# Altium footprint library Package_SO.PcbLib: 393 footprints (part 19 of 25)
Each footprint in its own frame and in the unit in brackets; x right, y up, seen from the top. Pads: shape width x height; smd on the part's side, far side on the other; paste and mask are expansions set on the pad; w line width, h text height; cw(c..) or ccw(c..) is an arc to the next point about the centre after c.
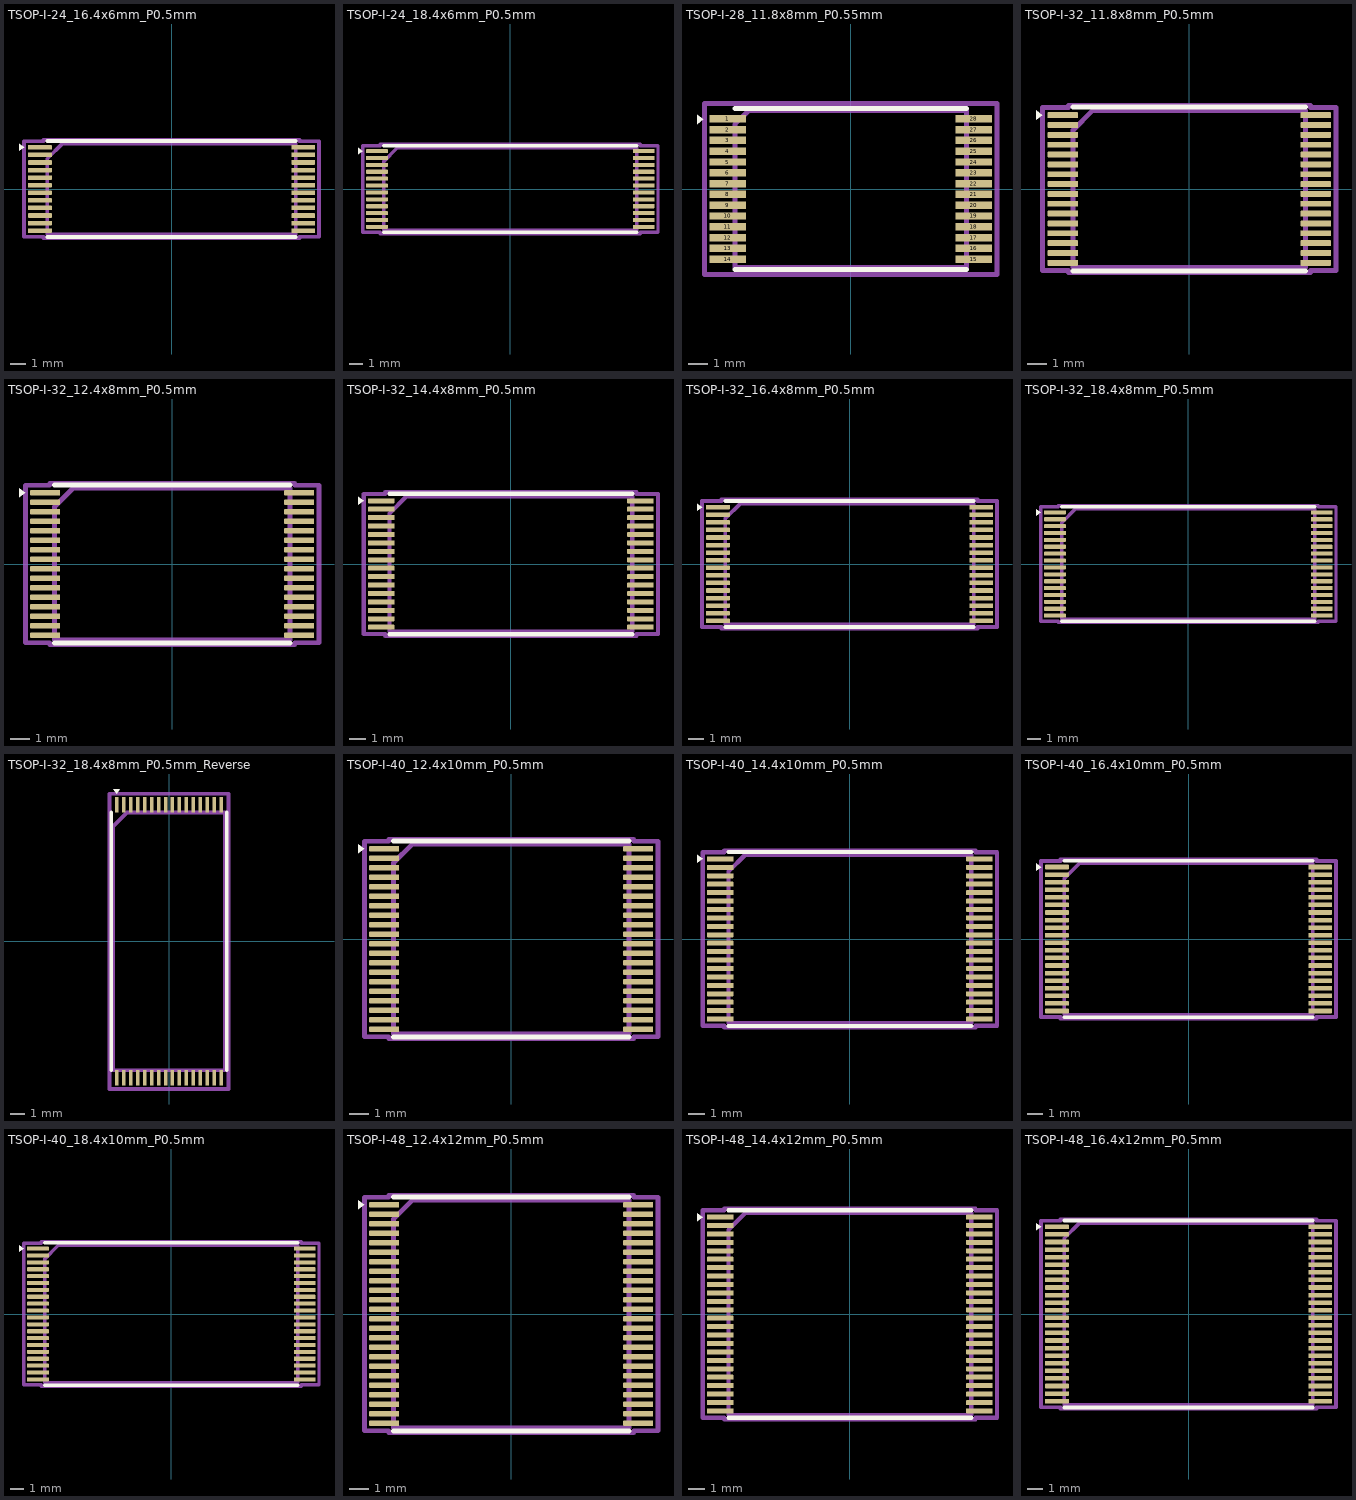
[diagram p18: the footprints below, top view; thin cyan lines are the x and y axes]

## TSOP-I-24_16.4x6mm_P0.5mm [mm]
pads (24):
  rrect25% 1.575x0.3 smd: 1(-8.688,2.75) 2(-8.688,2.25) 3(-8.688,1.75) 4(-8.688,1.25) 5(-8.688,0.75) 6(-8.688,0.25) 7(-8.688,-0.25) 8(-8.688,-0.75) 9(-8.688,-1.25) 10(-8.688,-1.75) 11(-8.688,-2.25) 12(-8.688,-2.75) 13(8.688,-2.75) 14(8.688,-2.25) 15(8.688,-1.75) 16(8.688,-1.25) 17(8.688,-0.75) 18(8.688,-0.25) 19(8.688,0.25) 20(8.688,0.75) 21(8.688,1.25) 22(8.688,1.75) 23(8.688,2.25) 24(8.688,2.75)
F.SilkS:
  region: -9.735,2.75 -10.065,2.51 -10.065,2.99
  lines w0.254: -8.2,-3.16 0,-3.16 8.2,-3.16 ; -8.2,3.16 0,3.16 8.2,3.16
Top Assembly:
  lines w0.254: -8.2,-3 8.2,-3 8.2,3 -7.2,3 -8.2,2 -8.2,-3
  text "'.Designator'" at -4.047,-0.84 h1
Top Courtyard:
  lines w0.254: -9.73,-3.15 -8.45,-3.15 -8.45,-3.25 8.45,-3.25 8.45,-3.15 9.73,-3.15 9.73,3.15 8.45,3.15 8.45,3.25 -8.45,3.25 -8.45,3.15 -9.73,3.15 -9.73,-3.15
Top Designator:
  text ".Designator" at -7.722,-0.508 h1.52

## TSOP-I-24_18.4x6mm_P0.5mm [mm]
pads (24):
  rrect25% 1.575x0.3 smd: 1(-9.687,2.75) 2(-9.687,2.25) 3(-9.687,1.75) 4(-9.687,1.25) 5(-9.687,0.75) 6(-9.687,0.25) 7(-9.687,-0.25) 8(-9.687,-0.75) 9(-9.687,-1.25) 10(-9.687,-1.75) 11(-9.687,-2.25) 12(-9.687,-2.75) 13(9.687,-2.75) 14(9.687,-2.25) 15(9.687,-1.75) 16(9.687,-1.25) 17(9.687,-0.75) 18(9.687,-0.25) 19(9.687,0.25) 20(9.687,0.75) 21(9.687,1.25) 22(9.687,1.75) 23(9.687,2.25) 24(9.687,2.75)
F.SilkS:
  region: -10.735,2.75 -11.065,2.51 -11.065,2.99
  lines w0.254: -9.2,-3.16 0,-3.16 9.2,-3.16 ; -9.2,3.16 0,3.16 9.2,3.16
Top Assembly:
  lines w0.254: -9.2,-3 9.2,-3 9.2,3 -8.2,3 -9.2,2 -9.2,-3
  text "'.Designator'" at -4.047,-0.84 h1
Top Courtyard:
  lines w0.254: -10.73,-3.15 -9.45,-3.15 -9.45,-3.25 9.45,-3.25 9.45,-3.15 10.73,-3.15 10.73,3.15 9.45,3.15 9.45,3.25 -9.45,3.25 -9.45,3.15 -10.73,3.15 -10.73,-3.15
Top Designator:
  text ".Designator" at -7.722,-0.508 h1.52

## TSOP-I-28_11.8x8mm_P0.55mm [mm]
pads (28):
  rect 1.87x0.38 smd: 1(-6.27,3.575) 2(-6.27,3.025) 3(-6.27,2.475) 4(-6.27,1.925) 5(-6.27,1.375) 6(-6.27,0.825) 7(-6.27,0.275) 8(-6.27,-0.275) 9(-6.27,-0.825) 10(-6.27,-1.375) 11(-6.27,-1.925) 12(-6.27,-2.475) 13(-6.27,-3.025) 14(-6.27,-3.575) 15(6.27,-3.575) 16(6.27,-3.025) 17(6.27,-2.475) 18(6.27,-1.925) 19(6.27,-1.375) 20(6.27,-0.825) 21(6.27,-0.275) 22(6.27,0.275) 23(6.27,0.825) 24(6.27,1.375) 25(6.27,1.925) 26(6.27,2.475) 27(6.27,3.025) 28(6.27,3.575)
F.SilkS:
  region: -7.5,3.55 -7.83,3.31 -7.83,3.79
  lines w0.254: -5.9,-4.11 5.9,-4.11 ; -5.9,4.11 5.9,4.11
Top Assembly:
  lines w0.254: -5.9,-4 5.9,-4 5.9,4 -5.2,4 -5.9,3.3 -5.9,-4
  text "'.Designator'" at -3.547,-0.84 h1
Top Courtyard:
  lines w0.254: -7.46,-4.35 7.46,-4.35 7.46,4.35 -7.46,4.35 -7.46,-4.35
Top Designator:
  text ".Designator" at -7.739,-0.508 h1.52

## TSOP-I-32_11.8x8mm_P0.5mm [mm]
pads (32):
  rrect25% 1.55x0.3 smd: 1(-6.425,3.75) 2(-6.425,3.25) 3(-6.425,2.75) 4(-6.425,2.25) 5(-6.425,1.75) 6(-6.425,1.25) 7(-6.425,0.75) 8(-6.425,0.25) 9(-6.425,-0.25) 10(-6.425,-0.75) 11(-6.425,-1.25) 12(-6.425,-1.75) 13(-6.425,-2.25) 14(-6.425,-2.75) 15(-6.425,-3.25) 16(-6.425,-3.75) 17(6.425,-3.75) 18(6.425,-3.25) 19(6.425,-2.75) 20(6.425,-2.25) 21(6.425,-1.75) 22(6.425,-1.25) 23(6.425,-0.75) 24(6.425,-0.25) 25(6.425,0.25) 26(6.425,0.75) 27(6.425,1.25) 28(6.425,1.75) 29(6.425,2.25) 30(6.425,2.75) 31(6.425,3.25) 32(6.425,3.75)
F.SilkS:
  region: -7.46,3.75 -7.79,3.51 -7.79,3.99
  lines w0.254: -5.9,-4.16 0,-4.16 5.9,-4.16 ; -5.9,4.16 0,4.16 5.9,4.16
Top Assembly:
  lines w0.254: -5.9,-4 5.9,-4 5.9,4 -4.9,4 -5.9,3 -5.9,-4
  text "'.Designator'" at -4.047,-0.84 h1
Top Courtyard:
  lines w0.254: -7.45,-4.15 -6.15,-4.15 -6.15,-4.25 6.15,-4.25 6.15,-4.15 7.45,-4.15 7.45,4.15 6.15,4.15 6.15,4.25 -6.15,4.25 -6.15,4.15 -7.45,4.15 -7.45,-4.15
Top Designator:
  text ".Designator" at -7.724,-0.508 h1.52

## TSOP-I-32_12.4x8mm_P0.5mm [mm]
pads (32):
  rrect25% 1.575x0.3 smd: 1(-6.687,3.75) 2(-6.687,3.25) 3(-6.687,2.75) 4(-6.687,2.25) 5(-6.687,1.75) 6(-6.687,1.25) 7(-6.687,0.75) 8(-6.687,0.25) 9(-6.687,-0.25) 10(-6.687,-0.75) 11(-6.687,-1.25) 12(-6.687,-1.75) 13(-6.687,-2.25) 14(-6.687,-2.75) 15(-6.687,-3.25) 16(-6.687,-3.75) 17(6.687,-3.75) 18(6.687,-3.25) 19(6.687,-2.75) 20(6.687,-2.25) 21(6.687,-1.75) 22(6.687,-1.25) 23(6.687,-0.75) 24(6.687,-0.25) 25(6.687,0.25) 26(6.687,0.75) 27(6.687,1.25) 28(6.687,1.75) 29(6.687,2.25) 30(6.687,2.75) 31(6.687,3.25) 32(6.687,3.75)
F.SilkS:
  region: -7.735,3.75 -8.065,3.51 -8.065,3.99
  lines w0.254: -6.2,-4.16 0,-4.16 6.2,-4.16 ; -6.2,4.16 0,4.16 6.2,4.16
Top Assembly:
  lines w0.254: -6.2,-4 6.2,-4 6.2,4 -5.2,4 -6.2,3 -6.2,-4
  text "'.Designator'" at -4.047,-0.84 h1
Top Courtyard:
  lines w0.254: -7.73,-4.15 -6.45,-4.15 -6.45,-4.25 6.45,-4.25 6.45,-4.15 7.73,-4.15 7.73,4.15 6.45,4.15 6.45,4.25 -6.45,4.25 -6.45,4.15 -7.73,4.15 -7.73,-4.15
Top Designator:
  text ".Designator" at -7.722,-0.508 h1.52

## TSOP-I-32_14.4x8mm_P0.5mm [mm]
pads (32):
  rrect25% 1.575x0.3 smd: 1(-7.688,3.75) 2(-7.688,3.25) 3(-7.688,2.75) 4(-7.688,2.25) 5(-7.688,1.75) 6(-7.688,1.25) 7(-7.688,0.75) 8(-7.688,0.25) 9(-7.688,-0.25) 10(-7.688,-0.75) 11(-7.688,-1.25) 12(-7.688,-1.75) 13(-7.688,-2.25) 14(-7.688,-2.75) 15(-7.688,-3.25) 16(-7.688,-3.75) 17(7.688,-3.75) 18(7.688,-3.25) 19(7.688,-2.75) 20(7.688,-2.25) 21(7.688,-1.75) 22(7.688,-1.25) 23(7.688,-0.75) 24(7.688,-0.25) 25(7.688,0.25) 26(7.688,0.75) 27(7.688,1.25) 28(7.688,1.75) 29(7.688,2.25) 30(7.688,2.75) 31(7.688,3.25) 32(7.688,3.75)
F.SilkS:
  region: -8.735,3.75 -9.065,3.51 -9.065,3.99
  lines w0.254: -7.2,-4.16 0,-4.16 7.2,-4.16 ; -7.2,4.16 0,4.16 7.2,4.16
Top Assembly:
  lines w0.254: -7.2,-4 7.2,-4 7.2,4 -6.2,4 -7.2,3 -7.2,-4
  text "'.Designator'" at -4.047,-0.84 h1
Top Courtyard:
  lines w0.254: -8.73,-4.15 -7.45,-4.15 -7.45,-4.25 7.45,-4.25 7.45,-4.15 8.73,-4.15 8.73,4.15 7.45,4.15 7.45,4.25 -7.45,4.25 -7.45,4.15 -8.73,4.15 -8.73,-4.15
Top Designator:
  text ".Designator" at -7.722,-0.508 h1.52

## TSOP-I-32_16.4x8mm_P0.5mm [mm]
pads (32):
  rrect25% 1.575x0.3 smd: 1(-8.688,3.75) 2(-8.688,3.25) 3(-8.688,2.75) 4(-8.688,2.25) 5(-8.688,1.75) 6(-8.688,1.25) 7(-8.688,0.75) 8(-8.688,0.25) 9(-8.688,-0.25) 10(-8.688,-0.75) 11(-8.688,-1.25) 12(-8.688,-1.75) 13(-8.688,-2.25) 14(-8.688,-2.75) 15(-8.688,-3.25) 16(-8.688,-3.75) 17(8.688,-3.75) 18(8.688,-3.25) 19(8.688,-2.75) 20(8.688,-2.25) 21(8.688,-1.75) 22(8.688,-1.25) 23(8.688,-0.75) 24(8.688,-0.25) 25(8.688,0.25) 26(8.688,0.75) 27(8.688,1.25) 28(8.688,1.75) 29(8.688,2.25) 30(8.688,2.75) 31(8.688,3.25) 32(8.688,3.75)
F.SilkS:
  region: -9.735,3.75 -10.065,3.51 -10.065,3.99
  lines w0.254: -8.2,-4.16 0,-4.16 8.2,-4.16 ; -8.2,4.16 0,4.16 8.2,4.16
Top Assembly:
  lines w0.254: -8.2,-4 8.2,-4 8.2,4 -7.2,4 -8.2,3 -8.2,-4
  text "'.Designator'" at -4.047,-0.84 h1
Top Courtyard:
  lines w0.254: -9.73,-4.15 -8.45,-4.15 -8.45,-4.25 8.45,-4.25 8.45,-4.15 9.73,-4.15 9.73,4.15 8.45,4.15 8.45,4.25 -8.45,4.25 -8.45,4.15 -9.73,4.15 -9.73,-4.15
Top Designator:
  text ".Designator" at -7.722,-0.508 h1.52

## TSOP-I-32_18.4x8mm_P0.5mm [mm]
pads (32):
  rrect25% 1.575x0.3 smd: 1(-9.687,3.75) 2(-9.687,3.25) 3(-9.687,2.75) 4(-9.687,2.25) 5(-9.687,1.75) 6(-9.687,1.25) 7(-9.687,0.75) 8(-9.687,0.25) 9(-9.687,-0.25) 10(-9.687,-0.75) 11(-9.687,-1.25) 12(-9.687,-1.75) 13(-9.687,-2.25) 14(-9.687,-2.75) 15(-9.687,-3.25) 16(-9.687,-3.75) 17(9.687,-3.75) 18(9.687,-3.25) 19(9.687,-2.75) 20(9.687,-2.25) 21(9.687,-1.75) 22(9.687,-1.25) 23(9.687,-0.75) 24(9.687,-0.25) 25(9.687,0.25) 26(9.687,0.75) 27(9.687,1.25) 28(9.687,1.75) 29(9.687,2.25) 30(9.687,2.75) 31(9.687,3.25) 32(9.687,3.75)
F.SilkS:
  region: -10.735,3.75 -11.065,3.51 -11.065,3.99
  lines w0.254: -9.2,-4.16 0,-4.16 9.2,-4.16 ; -9.2,4.16 0,4.16 9.2,4.16
Top Assembly:
  lines w0.254: -9.2,-4 9.2,-4 9.2,4 -8.2,4 -9.2,3 -9.2,-4
  text "'.Designator'" at -4.047,-0.84 h1
Top Courtyard:
  lines w0.254: -10.73,-4.15 -9.45,-4.15 -9.45,-4.25 9.45,-4.25 9.45,-4.15 10.73,-4.15 10.73,4.15 9.45,4.15 9.45,4.25 -9.45,4.25 -9.45,4.15 -10.73,4.15 -10.73,-4.15
Top Designator:
  text ".Designator" at -7.722,-0.508 h1.52

## TSOP-I-32_18.4x8mm_P0.5mm_Reverse [mm]
pads (32):
  rect 0.25x1.1 smd: 1(-3.75,9.75) 2(-3.25,9.75) 3(-2.75,9.75) 4(-2.25,9.75) 5(-1.75,9.75) 6(-1.25,9.75) 7(-0.75,9.75) 8(-0.25,9.75) 9(0.25,9.75) 10(0.75,9.75) 11(1.25,9.75) 12(1.75,9.75) 13(2.25,9.75) 14(2.75,9.75) 15(3.25,9.75) 16(3.75,9.75) 17(3.75,-9.75) 18(3.25,-9.75) 19(2.75,-9.75) 20(2.25,-9.75) 21(1.75,-9.75) 22(1.25,-9.75) 23(0.75,-9.75) 24(0.25,-9.75) 25(-0.25,-9.75) 26(-0.75,-9.75) 27(-1.25,-9.75) 28(-1.75,-9.75) 29(-2.25,-9.75) 30(-2.75,-9.75) 31(-3.25,-9.75) 32(-3.75,-9.75)
F.SilkS:
  region: -3.75,10.55 -3.99,10.88 -3.51,10.88
  lines w0.254: -4.12,-9.2 -4.12,9.2 ; 4.12,-9.2 4.12,9.2
Top Assembly:
  lines w0.254: -4,-9.2 4,-9.2 4,9.2 -3,9.2 -4,8.2 -4,-9.2
  text "'.Designator'" at -4.047,-0.84 h1
Top Courtyard:
  lines w0.254: -4.25,-10.55 4.25,-10.55 4.25,10.55 -4.25,10.55 -4.25,-10.55
Top Designator:
  text ".Designator" at -7.618,-0.406 h1.52

## TSOP-I-40_12.4x10mm_P0.5mm [mm]
pads (40):
  rrect25% 1.575x0.3 smd: 1(-6.687,4.75) 2(-6.687,4.25) 3(-6.687,3.75) 4(-6.687,3.25) 5(-6.687,2.75) 6(-6.687,2.25) 7(-6.687,1.75) 8(-6.687,1.25) 9(-6.687,0.75) 10(-6.687,0.25) 11(-6.687,-0.25) 12(-6.687,-0.75) 13(-6.687,-1.25) 14(-6.687,-1.75) 15(-6.687,-2.25) 16(-6.687,-2.75) 17(-6.687,-3.25) 18(-6.687,-3.75) 19(-6.687,-4.25) 20(-6.687,-4.75) 21(6.687,-4.75) 22(6.687,-4.25) 23(6.687,-3.75) 24(6.687,-3.25) 25(6.687,-2.75) 26(6.687,-2.25) 27(6.687,-1.75) 28(6.687,-1.25) 29(6.687,-0.75) 30(6.687,-0.25) 31(6.687,0.25) 32(6.687,0.75) 33(6.687,1.25) 34(6.687,1.75) 35(6.687,2.25) 36(6.687,2.75) 37(6.687,3.25) 38(6.687,3.75) 39(6.687,4.25) 40(6.687,4.75)
F.SilkS:
  region: -7.735,4.75 -8.065,4.51 -8.065,4.99
  lines w0.254: -6.2,-5.16 0,-5.16 6.2,-5.16 ; -6.2,5.16 0,5.16 6.2,5.16
Top Assembly:
  lines w0.254: -6.2,-5 6.2,-5 6.2,5 -5.2,5 -6.2,4 -6.2,-5
  text "'.Designator'" at -4.047,-0.84 h1
Top Courtyard:
  lines w0.254: -7.73,-5.15 -6.45,-5.15 -6.45,-5.25 6.45,-5.25 6.45,-5.15 7.73,-5.15 7.73,5.15 6.45,5.15 6.45,5.25 -6.45,5.25 -6.45,5.15 -7.73,5.15 -7.73,-5.15
Top Designator:
  text ".Designator" at -7.722,-0.508 h1.52

## TSOP-I-40_14.4x10mm_P0.5mm [mm]
pads (40):
  rrect25% 1.575x0.3 smd: 1(-7.688,4.75) 2(-7.688,4.25) 3(-7.688,3.75) 4(-7.688,3.25) 5(-7.688,2.75) 6(-7.688,2.25) 7(-7.688,1.75) 8(-7.688,1.25) 9(-7.688,0.75) 10(-7.688,0.25) 11(-7.688,-0.25) 12(-7.688,-0.75) 13(-7.688,-1.25) 14(-7.688,-1.75) 15(-7.688,-2.25) 16(-7.688,-2.75) 17(-7.688,-3.25) 18(-7.688,-3.75) 19(-7.688,-4.25) 20(-7.688,-4.75) 21(7.688,-4.75) 22(7.688,-4.25) 23(7.688,-3.75) 24(7.688,-3.25) 25(7.688,-2.75) 26(7.688,-2.25) 27(7.688,-1.75) 28(7.688,-1.25) 29(7.688,-0.75) 30(7.688,-0.25) 31(7.688,0.25) 32(7.688,0.75) 33(7.688,1.25) 34(7.688,1.75) 35(7.688,2.25) 36(7.688,2.75) 37(7.688,3.25) 38(7.688,3.75) 39(7.688,4.25) 40(7.688,4.75)
F.SilkS:
  region: -8.735,4.75 -9.065,4.51 -9.065,4.99
  lines w0.254: -7.2,-5.16 0,-5.16 7.2,-5.16 ; -7.2,5.16 0,5.16 7.2,5.16
Top Assembly:
  lines w0.254: -7.2,-5 7.2,-5 7.2,5 -6.2,5 -7.2,4 -7.2,-5
  text "'.Designator'" at -4.047,-0.84 h1
Top Courtyard:
  lines w0.254: -8.73,-5.15 -7.45,-5.15 -7.45,-5.25 7.45,-5.25 7.45,-5.15 8.73,-5.15 8.73,5.15 7.45,5.15 7.45,5.25 -7.45,5.25 -7.45,5.15 -8.73,5.15 -8.73,-5.15
Top Designator:
  text ".Designator" at -7.722,-0.508 h1.52

## TSOP-I-40_16.4x10mm_P0.5mm [mm]
pads (40):
  rrect25% 1.575x0.3 smd: 1(-8.688,4.75) 2(-8.688,4.25) 3(-8.688,3.75) 4(-8.688,3.25) 5(-8.688,2.75) 6(-8.688,2.25) 7(-8.688,1.75) 8(-8.688,1.25) 9(-8.688,0.75) 10(-8.688,0.25) 11(-8.688,-0.25) 12(-8.688,-0.75) 13(-8.688,-1.25) 14(-8.688,-1.75) 15(-8.688,-2.25) 16(-8.688,-2.75) 17(-8.688,-3.25) 18(-8.688,-3.75) 19(-8.688,-4.25) 20(-8.688,-4.75) 21(8.688,-4.75) 22(8.688,-4.25) 23(8.688,-3.75) 24(8.688,-3.25) 25(8.688,-2.75) 26(8.688,-2.25) 27(8.688,-1.75) 28(8.688,-1.25) 29(8.688,-0.75) 30(8.688,-0.25) 31(8.688,0.25) 32(8.688,0.75) 33(8.688,1.25) 34(8.688,1.75) 35(8.688,2.25) 36(8.688,2.75) 37(8.688,3.25) 38(8.688,3.75) 39(8.688,4.25) 40(8.688,4.75)
F.SilkS:
  region: -9.735,4.75 -10.065,4.51 -10.065,4.99
  lines w0.254: -8.2,-5.16 0,-5.16 8.2,-5.16 ; -8.2,5.16 0,5.16 8.2,5.16
Top Assembly:
  lines w0.254: -8.2,-5 8.2,-5 8.2,5 -7.2,5 -8.2,4 -8.2,-5
  text "'.Designator'" at -4.047,-0.84 h1
Top Courtyard:
  lines w0.254: -9.73,-5.15 -8.45,-5.15 -8.45,-5.25 8.45,-5.25 8.45,-5.15 9.73,-5.15 9.73,5.15 8.45,5.15 8.45,5.25 -8.45,5.25 -8.45,5.15 -9.73,5.15 -9.73,-5.15
Top Designator:
  text ".Designator" at -7.722,-0.508 h1.52

## TSOP-I-40_18.4x10mm_P0.5mm [mm]
pads (40):
  rrect25% 1.575x0.3 smd: 1(-9.687,4.75) 2(-9.687,4.25) 3(-9.687,3.75) 4(-9.687,3.25) 5(-9.687,2.75) 6(-9.687,2.25) 7(-9.687,1.75) 8(-9.687,1.25) 9(-9.687,0.75) 10(-9.687,0.25) 11(-9.687,-0.25) 12(-9.687,-0.75) 13(-9.687,-1.25) 14(-9.687,-1.75) 15(-9.687,-2.25) 16(-9.687,-2.75) 17(-9.687,-3.25) 18(-9.687,-3.75) 19(-9.687,-4.25) 20(-9.687,-4.75) 21(9.687,-4.75) 22(9.687,-4.25) 23(9.687,-3.75) 24(9.687,-3.25) 25(9.687,-2.75) 26(9.687,-2.25) 27(9.687,-1.75) 28(9.687,-1.25) 29(9.687,-0.75) 30(9.687,-0.25) 31(9.687,0.25) 32(9.687,0.75) 33(9.687,1.25) 34(9.687,1.75) 35(9.687,2.25) 36(9.687,2.75) 37(9.687,3.25) 38(9.687,3.75) 39(9.687,4.25) 40(9.687,4.75)
F.SilkS:
  region: -10.735,4.75 -11.065,4.51 -11.065,4.99
  lines w0.254: -9.2,-5.16 0,-5.16 9.2,-5.16 ; -9.2,5.16 0,5.16 9.2,5.16
Top Assembly:
  lines w0.254: -9.2,-5 9.2,-5 9.2,5 -8.2,5 -9.2,4 -9.2,-5
  text "'.Designator'" at -4.047,-0.84 h1
Top Courtyard:
  lines w0.254: -10.73,-5.15 -9.45,-5.15 -9.45,-5.25 9.45,-5.25 9.45,-5.15 10.73,-5.15 10.73,5.15 9.45,5.15 9.45,5.25 -9.45,5.25 -9.45,5.15 -10.73,5.15 -10.73,-5.15
Top Designator:
  text ".Designator" at -7.722,-0.508 h1.52

## TSOP-I-48_12.4x12mm_P0.5mm [mm]
pads (48):
  rrect25% 1.575x0.3 smd: 1(-6.687,5.75) 2(-6.687,5.25) 3(-6.687,4.75) 4(-6.687,4.25) 5(-6.687,3.75) 6(-6.687,3.25) 7(-6.687,2.75) 8(-6.687,2.25) 9(-6.687,1.75) 10(-6.687,1.25) 11(-6.687,0.75) 12(-6.687,0.25) 13(-6.687,-0.25) 14(-6.687,-0.75) 15(-6.687,-1.25) 16(-6.687,-1.75) 17(-6.687,-2.25) 18(-6.687,-2.75) 19(-6.687,-3.25) 20(-6.687,-3.75) 21(-6.687,-4.25) 22(-6.687,-4.75) 23(-6.687,-5.25) 24(-6.687,-5.75) 25(6.687,-5.75) 26(6.687,-5.25) 27(6.687,-4.75) 28(6.687,-4.25) 29(6.687,-3.75) 30(6.687,-3.25) 31(6.687,-2.75) 32(6.687,-2.25) 33(6.687,-1.75) 34(6.687,-1.25) 35(6.687,-0.75) 36(6.687,-0.25) 37(6.687,0.25) 38(6.687,0.75) 39(6.687,1.25) 40(6.687,1.75) 41(6.687,2.25) 42(6.687,2.75) 43(6.687,3.25) 44(6.687,3.75) 45(6.687,4.25) 46(6.687,4.75) 47(6.687,5.25) 48(6.687,5.75)
F.SilkS:
  region: -7.735,5.75 -8.065,5.51 -8.065,5.99
  lines w0.254: -6.2,-6.16 0,-6.16 6.2,-6.16 ; -6.2,6.16 0,6.16 6.2,6.16
Top Assembly:
  lines w0.254: -6.2,-6 6.2,-6 6.2,6 -5.2,6 -6.2,5 -6.2,-6
  text "'.Designator'" at -4.047,-0.84 h1
Top Courtyard:
  lines w0.254: -7.73,-6.15 -6.45,-6.15 -6.45,-6.25 6.45,-6.25 6.45,-6.15 7.73,-6.15 7.73,6.15 6.45,6.15 6.45,6.25 -6.45,6.25 -6.45,6.15 -7.73,6.15 -7.73,-6.15
Top Designator:
  text ".Designator" at -7.722,-0.508 h1.52

## TSOP-I-48_14.4x12mm_P0.5mm [mm]
pads (48):
  rrect25% 1.575x0.3 smd: 1(-7.688,5.75) 2(-7.688,5.25) 3(-7.688,4.75) 4(-7.688,4.25) 5(-7.688,3.75) 6(-7.688,3.25) 7(-7.688,2.75) 8(-7.688,2.25) 9(-7.688,1.75) 10(-7.688,1.25) 11(-7.688,0.75) 12(-7.688,0.25) 13(-7.688,-0.25) 14(-7.688,-0.75) 15(-7.688,-1.25) 16(-7.688,-1.75) 17(-7.688,-2.25) 18(-7.688,-2.75) 19(-7.688,-3.25) 20(-7.688,-3.75) 21(-7.688,-4.25) 22(-7.688,-4.75) 23(-7.688,-5.25) 24(-7.688,-5.75) 25(7.688,-5.75) 26(7.688,-5.25) 27(7.688,-4.75) 28(7.688,-4.25) 29(7.688,-3.75) 30(7.688,-3.25) 31(7.688,-2.75) 32(7.688,-2.25) 33(7.688,-1.75) 34(7.688,-1.25) 35(7.688,-0.75) 36(7.688,-0.25) 37(7.688,0.25) 38(7.688,0.75) 39(7.688,1.25) 40(7.688,1.75) 41(7.688,2.25) 42(7.688,2.75) 43(7.688,3.25) 44(7.688,3.75) 45(7.688,4.25) 46(7.688,4.75) 47(7.688,5.25) 48(7.688,5.75)
F.SilkS:
  region: -8.735,5.75 -9.065,5.51 -9.065,5.99
  lines w0.254: -7.2,-6.16 0,-6.16 7.2,-6.16 ; -7.2,6.16 0,6.16 7.2,6.16
Top Assembly:
  lines w0.254: -7.2,-6 7.2,-6 7.2,6 -6.2,6 -7.2,5 -7.2,-6
  text "'.Designator'" at -4.047,-0.84 h1
Top Courtyard:
  lines w0.254: -8.73,-6.15 -7.45,-6.15 -7.45,-6.25 7.45,-6.25 7.45,-6.15 8.73,-6.15 8.73,6.15 7.45,6.15 7.45,6.25 -7.45,6.25 -7.45,6.15 -8.73,6.15 -8.73,-6.15
Top Designator:
  text ".Designator" at -7.722,-0.508 h1.52

## TSOP-I-48_16.4x12mm_P0.5mm [mm]
pads (48):
  rrect25% 1.575x0.3 smd: 1(-8.688,5.75) 2(-8.688,5.25) 3(-8.688,4.75) 4(-8.688,4.25) 5(-8.688,3.75) 6(-8.688,3.25) 7(-8.688,2.75) 8(-8.688,2.25) 9(-8.688,1.75) 10(-8.688,1.25) 11(-8.688,0.75) 12(-8.688,0.25) 13(-8.688,-0.25) 14(-8.688,-0.75) 15(-8.688,-1.25) 16(-8.688,-1.75) 17(-8.688,-2.25) 18(-8.688,-2.75) 19(-8.688,-3.25) 20(-8.688,-3.75) 21(-8.688,-4.25) 22(-8.688,-4.75) 23(-8.688,-5.25) 24(-8.688,-5.75) 25(8.688,-5.75) 26(8.688,-5.25) 27(8.688,-4.75) 28(8.688,-4.25) 29(8.688,-3.75) 30(8.688,-3.25) 31(8.688,-2.75) 32(8.688,-2.25) 33(8.688,-1.75) 34(8.688,-1.25) 35(8.688,-0.75) 36(8.688,-0.25) 37(8.688,0.25) 38(8.688,0.75) 39(8.688,1.25) 40(8.688,1.75) 41(8.688,2.25) 42(8.688,2.75) 43(8.688,3.25) 44(8.688,3.75) 45(8.688,4.25) 46(8.688,4.75) 47(8.688,5.25) 48(8.688,5.75)
F.SilkS:
  region: -9.735,5.75 -10.065,5.51 -10.065,5.99
  lines w0.254: -8.2,-6.16 0,-6.16 8.2,-6.16 ; -8.2,6.16 0,6.16 8.2,6.16
Top Assembly:
  lines w0.254: -8.2,-6 8.2,-6 8.2,6 -7.2,6 -8.2,5 -8.2,-6
  text "'.Designator'" at -4.047,-0.84 h1
Top Courtyard:
  lines w0.254: -9.73,-6.15 -8.45,-6.15 -8.45,-6.25 8.45,-6.25 8.45,-6.15 9.73,-6.15 9.73,6.15 8.45,6.15 8.45,6.25 -8.45,6.25 -8.45,6.15 -9.73,6.15 -9.73,-6.15
Top Designator:
  text ".Designator" at -7.722,-0.508 h1.52